# EAGLE library part MC74HC595ADTR2G (library ICs)
8-Bit Serial-Input/Serial or Parallel-Output Shift Register with Latched 3-State Outputs
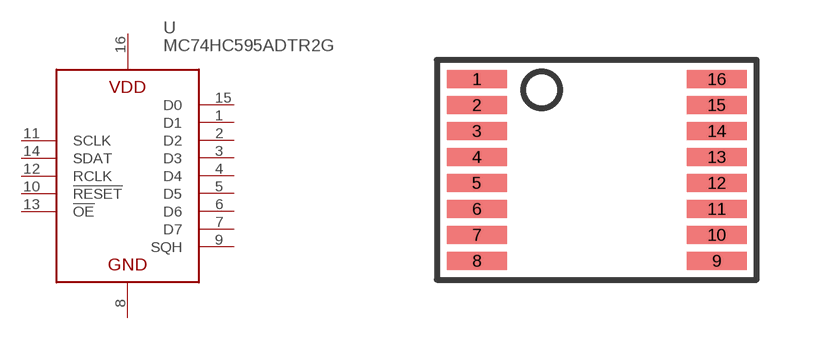
[diagram p290: symbol with the pads of TSSOP16; footprint TSSOP16]

Designator prefix U

## MC74HC595ADTR2G (DIGIKEY: MC74HC595ADTR2GOSTR-ND; HEIGHT: 2; PRICE_PER: 0.39; VALUE: HC595)  [TSSOP16]
1  D1
2  D2
3  D3
4  D4
5  D5
6  D6
7  D7
8  GND
9  SQH
10  !RESET
11  SCLK
12  RCLK
13  !OE
14  SDAT
15  D0
16  VDD

## Footprint TSSOP16 (pad centres in mm)
smd 1.5 x 0.45: 1 -3,2.275; 2 -3,1.625; 3 -3,0.975; 4 -3,0.325; 5 -3,-0.325; 6 -3,-0.975; 7 -3,-1.625; 8 -3,-2.275; 9 3,-2.275; 10 3,-1.625; 11 3,-0.975; 12 3,-0.325; 13 3,0.325; 14 3,0.975; 15 3,1.625; 16 3,2.275